# Altium integrated library B4B-PH-K-S_LF__SN_.IntLib: 1 symbol
Pins are listed as number, name and electrical type; pins without a type are passive.

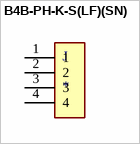
[diagram p0: symbol B4B-PH-K-S(LF)(SN)]

## B4B-PH-K-S(LF)(SN)
designator J
Connector Header Through Hole 4 position 0.079 _2.00mm_; MP: B4B-PH-K-S_LF__SN_; MF: JST Sales; Package: None; Value: *; SnapEDA_Link: https://www.snapeda.com/parts/B4B-PH-K-S%28LF%29%28SN%29/JST%20Sales%20America%20Inc./view-part/422410/?ref=snap; Digi-Key_Purchase_URL: https://www.digikey.com.tr/product-detail/en/jst-sales-america-inc/B4B-PH-K-S_LF__SN_/455-1706-ND/926613?utm_source=snapeda&utm_medium=aggregator&utm_campaign=symbol; Digi-Key_Part_Number: 455-1706-ND
footprint JST_B4B-PH-K-S(LF)(SN)
pins: 1, 2, 3, 4